# EAGLE library part 93AA56B-I/P (library Microchip_By_element14_Batch_1)
2K Microwire Compatible Serial EEPROM
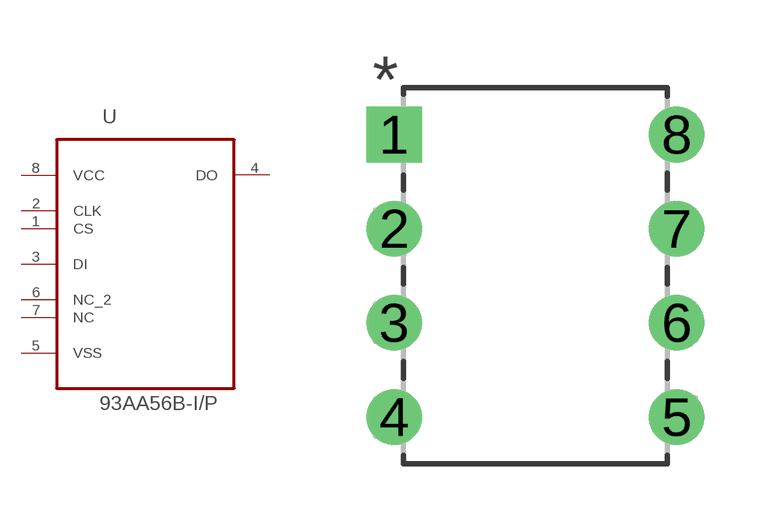
[diagram p191: symbol with the pads of DIP254P762X533-8; footprint DIP254P762X533-8]

Designator prefix -

## 93AA56B-I/P (MPN: 93AA56B-I/P; OC_FARNELL: -; OC_NEWARK: 30H4502; PACKAGE: DIP-8; SUPPLIER: MICROCHIP)  [DIP254P762X533-8]
1  CS  in
2  CLK  in
3  DI  in
4  DO  out
5  VSS  pas
6  NC_2  nc
7  NC  nc
8  VCC  pwr

## Footprint DIP254P762X533-8 (pad centres in mm)
drill 0.991 square: 1 -7.62,7.62
drill 0.991: 2 -7.62,5.08; 3 -7.62,2.54; 4 -7.62,0; 5 0,0; 6 0,2.54; 7 0,5.08; 8 0,7.62